# EAGLE library part LPR530AL (library st-microelectronics)
MEMS Motion Sensor dual axis pitch and roll ±300°/s analog gyroscope
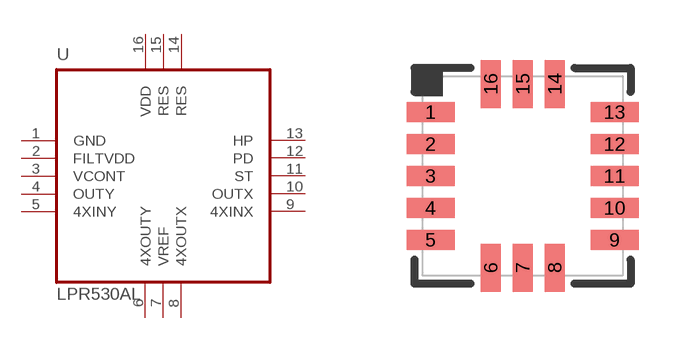
[diagram p37: symbol with the pads of LGA16; footprint LGA16]

Designator prefix U

## LPR530AL  [LGA16]
1  GND  pwr
2  FILTVDD  pas
3  VCONT  pas
4  OUTY  out
5  4XINY  in
6  4XOUTY  out
7  VREF  out
8  4XOUTX  out
9  4XINX  in
10  OUTX  out
11  ST  in
12  PD  in
13  HP  in
14  RES  pwr
15  RES  pwr
16  VDD  pwr

## Footprint LGA16 (pad centres in mm)
LGA-16 body 5x5x1.5mm
smd 1.2 x 0.5: 1 -2.3,1.6; 2 -2.3,0.8; 3 -2.3,0; 4 -2.3,-0.8; 5 -2.3,-1.6; 9 2.3,-1.6; 10 2.3,-0.8; 11 2.3,0; 12 2.3,0.8; 13 2.3,1.6
smd 0.5 x 1.2: 6 -0.8,-2.3; 7 0,-2.3; 8 0.8,-2.3; 14 0.8,2.3; 15 0,2.3; 16 -0.8,2.3